# EAGLE library part DS1099 (library Parts for D-DAQ)
Programmable Oscilator Frequency range from 0.25Hz to 1.048MHz, in powers of 2, set at factory
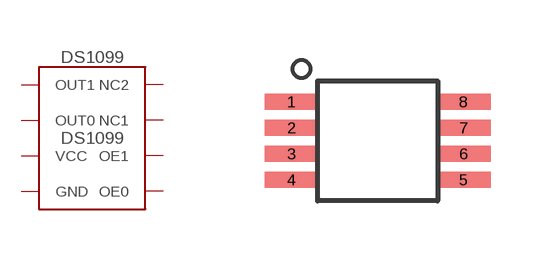
[diagram p18: symbol with the pads of SOIC-8; footprint SOIC-8]

Designator prefix X

## DS1099  [SOIC-8]
1  OUT1  out
2  OUT0  out
3  VCC  pwr
4  GND  pwr
5  OE0  in
6  OE1  in
7  NC1  nc
8  NC2  nc

## Footprint SOIC-8 (pad centres in mm)
smd 1.35 x 0.4: 1 -2.15,0.975; 2 -2.15,0.325; 3 -2.15,-0.325; 4 -2.15,-0.975; 5 2.15,-0.975; 6 2.15,-0.325; 7 2.15,0.325; 8 2.15,0.975